# Altium schematic symbol library SN65HVD267DR.SchLib: 1 symbol
Pins are listed as number, name and electrical type; pins without a type are passive.

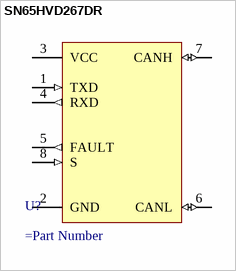
[diagram p0: symbol SN65HVD267DR]

## SN65HVD267DR
designator U?
=Description
pins: 1 TXD (in), 2 GND (power), 3 VCC (power), 4 RXD (out), 5 FAULT (out), 6 CANL (io), 7 CANH (io), 8 S (in)